# EAGLE library part LCD-ST7789-1.3INCH-FULL (library ESPkachu)
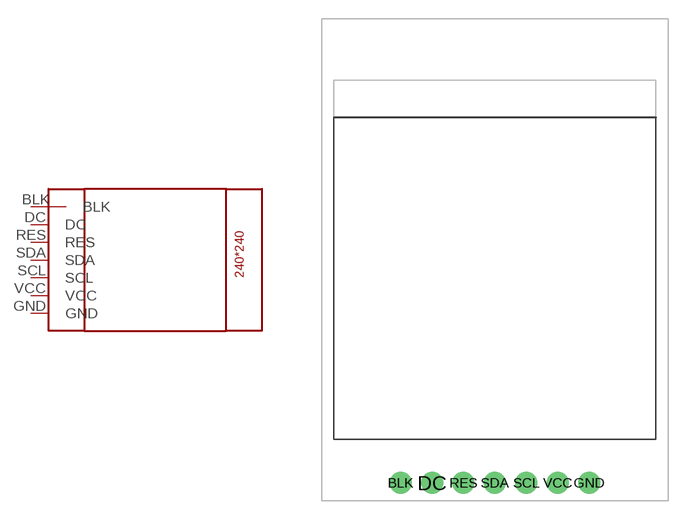
[diagram p5: symbol with the pads of LCD-ST7789-1.3INCH-FULL; footprint LCD-ST7789-1.3INCH-FULL]

Designator prefix -

## LCD-ST7789-1.3INCH-FULL  [LCD-ST7789-1.3INCH-FULL]
BLK  BLK
DC  DC
GND  GND
RES  RES
SCL  SCL
SDA  SDA
VCC  VCC

## Footprint LCD-ST7789-1.3INCH-FULL (pad centres in mm)
drill 0.9 pad 1.778: BLK -7.62,-16.55; DC -5.08,-16.55; GND 7.62,-16.55; RES -2.54,-16.55; SCL 2.54,-16.55; SDA 0,-16.55; VCC 5.08,-16.55